# Altium footprint library WallBaseBoard1.PcbLib: 16 footprints
Each footprint in its own frame and in the unit in brackets; x right, y up, seen from the top. Pads: shape width x height; smd on the part's side, far side on the other; paste and mask are expansions set on the pad; w line width, h text height; cw(c..) or ccw(c..) is an arc to the next point about the centre after c.
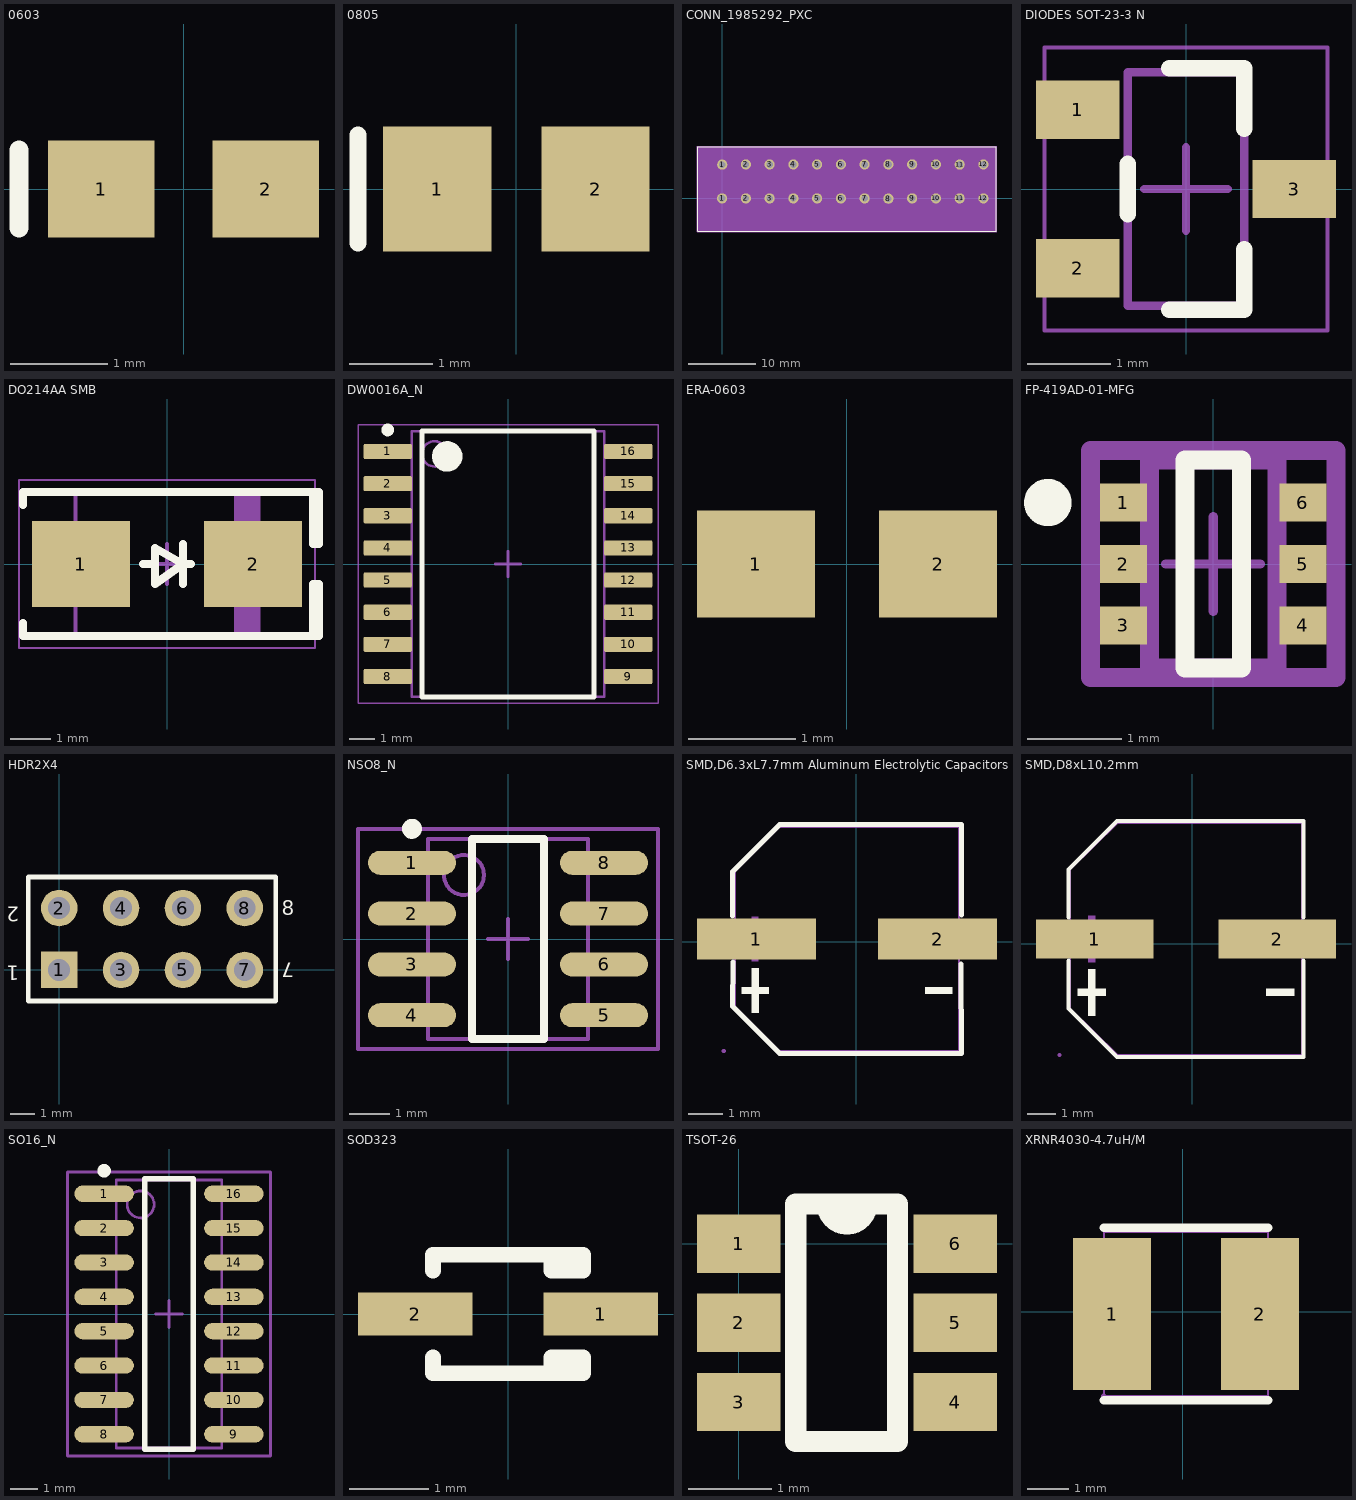
[diagram p0: the footprints below, top view; thin cyan lines are the x and y axes]

## 0603 [mm]
pads (2):
  rect 1.1x1 smd: 1(-0.85,0) 2(0.85,0)
Top Overlay:
  lines w0.2: -1.7,-0.4 -1.7,0.4

## 0805 [mm]
pads (2):
  rect 1.3x1.5 smd: 1(-0.95,0) 2(0.95,0)
Top Overlay:
  lines w0.2: -1.9,-0.65 -1.9,0.65

## CONN_1985292_PXC [mil]
pads (24):
  round 59 hole 39 paste-99999 mask+0: 1(0,0) 1(0.64,195.52) 2(137.8,0) 2(137.8,196.85) 3(275.59,0) 3(275.59,196.85) 4(413.39,0) 4(413.39,196.85) 5(551.18,196.85) 5(551.18,0) 6(688.98,0) 6(688.98,196.85) 7(826.77,196.85) 7(826.77,0) 8(964.43,-1.77) 8(964.57,196.85) 9(1102.36,196.85) 9(1102.36,0) 10(1240.16,0) 10(1240.16,196.85) 11(1377.95,0) 11(1377.96,196.09) 12(1515.75,0) 12(1515.75,196.85)
Top Overlay:
  lines w6: -140.59,-189.69 -140.59,298.31 1589.41,298.31 1589.41,-189.69 -140.59,-189.69
  text ".Designator" at 590,-90 h40
Mechanical 13:
  circle w20: c0,0 r15
  lines w1: -135.59,-184.69 -135.59,293.31 1584.41,293.31 1584.41,-184.69 -135.59,-184.69
  text ".Designator" at 600,-130 h40
Mechanical 15:
  region: 1594.41,303.31 -145.59,303.31 -145.59,-194.69 1594.41,-194.69
  lines w6: -145.59,-194.69 1594.41,-194.69 1594.41,303.31 -145.59,303.31 -145.59,-194.69

## DIODES SOT-23-3 N [mm]
pads (3):
  rect 1x0.7 smd: 1(-1.3,0.95) 2(-1.3,-0.95) 3(1.3,0)
Top Overlay:
  lines w0.2: -0.7,-0.3 -0.7,0.3 ; -0.2,-1.45 0.7,-1.45 0.7,-0.725 ; -0.2,1.45 0.7,1.45 0.7,0.725
Mechanical 13:
  lines w0.1: -0.7,-1.4 -0.7,1.4 0.7,1.4 0.7,-1.4 -0.7,-1.4
Mechanical 15:
  lines w0.05: -1.7,-1.7 -1.7,1.7 1.7,1.7 1.7,-1.7 -1.7,-1.7
  lines w0.1: -0.5,0 0.5,0 ; 0,-0.5 0,0.5
3D body "DIODES INC - SOT-23-3 - N.step": height 1.45, standoff 0, extent -1.5,-1.55 1.5,1.55

## DO214AA SMB [mm]
pads (2):
  rect 2.45x2.15 smd: 1(-2.15,0) 2(2.15,0)
Top Overlay:
  lines w0.2: -3.6,-1.475 -3.6,-1.8 3.8,-1.8 3.8,-0.5 3.65,-0.5 3.65,-1.8 ; -3.6,1.475 -3.6,1.8 3.8,1.8 3.8,0.5 3.65,0.5 3.65,1.8 ; -0.6,0 -0.3,0 ; 0.4,-0.5 0.4,0.5 ; 0.6,0 0.4,0 ; 0.4,0 -0.3,-0.5 -0.3,0.4 0.4,0
Mechanical 13:
  rectangle: 1.67,-1.8 2.285,1.8
  lines w0.1: -2.285,-1.8 -2.285,1.8 2.285,1.8 2.285,-1.8 -2.285,-1.8
Mechanical 15:
  lines w0.05: -3.7,-2.1 -3.7,2.1 3.7,2.1 3.7,-2.1 -3.7,-2.1
  lines w0.1: -0.5,0 0.5,0 ; 0,-0.5 0,0.5
3D body "SMB.STEP": height 2.4, standoff 0, extent -2.6,-1.8 2.6,1.8

## DW0016A_N [mm]
pads (16):
  rrect17% 1.9x0.6 smd: 1(-4.75,4.445) 2(-4.75,3.175) 3(-4.75,1.905) 4(-4.75,0.635) 5(-4.75,-0.635) 6(-4.75,-1.905) 7(-4.75,-3.175) 8(-4.75,-4.445) 9(4.75,-4.445) 10(4.75,-3.175) 11(4.75,-1.905) 12(4.75,-0.635) 13(4.75,0.635) 14(4.75,1.905) 15(4.75,3.175) 16(4.75,4.445)
Top Overlay:
  circle w0.25: c-4.75,5.295 r0.125
  circle w0.6: c-2.4,4.25 r0.3
  lines w0.2: -3.4,-5.25 -3.4,5.25 3.4,5.25 3.4,-5.25 -3.4,-5.25
Mechanical 1:
  text ".Designator" at -1.905,-0.254 h1.02
Mechanical 13:
  circle w0.1: c-2.9,4.35 r0.5
  lines w0.1: -3.8,-5.25 -3.8,5.25 3.8,5.25 3.8,-5.25 -3.8,-5.25
Mechanical 15:
  lines w0.05: -5.925,-5.5 -5.925,5.5 5.925,5.5 5.925,-5.5 -5.925,-5.5
  lines w0.1: -0.5,0 0.5,0 ; 0,-0.5 0,0.5
3D body "DW0016AakaM16B.stp": height 2.5, standoff -0.04, extent -5.143,-5.131 5.144,5.131

## ERA-0603 [mm]
pads (2):
  rect 1.1x1 smd: 1(-0.85,0) 2(0.85,0)

## FP-419AD-01-MFG [mm]
pads (6):
  rect 0.5x0.4 smd paste+0 mask+0: 1(-0.95,0.65) 2(-0.95,0) 3(-0.95,-0.65) 4(0.95,-0.65) 5(0.95,0) 6(0.95,0.65)
Top Overlay:
  circle w0.25: c-1.75,0.65 r0.125
  lines w0.2: -0.3,-1.1 0.3,-1.1 0.3,1.1 -0.3,1.1 -0.3,-1.1
Top 3D Body:
  lines w0.2: -0.675,-1.1 0.675,-1.1 0.675,1.1 -0.675,1.1 -0.675,-1.1
Top Courtyard:
  lines w0.2: -1.3,-1.2 1.3,-1.2 1.3,1.2 -1.3,1.2 -1.3,-1.2
Top Assembly:
  lines w0.2: -1.3,-1.2 1.3,-1.2 1.3,1.2 -1.3,1.2 -1.3,-1.2
  text ".Designator" at 0,0.191 h1.02
Top Component Center:
  lines w0.1: -0.5,0 0.5,0 ; 0,-0.5 0,0.5
3D body "IC_ON_Semiconductor_NC7WZ07P6X_eec.STEP": height 0.25, standoff 0, extent -1.3,-1.2 1.3,1.2

## HDR2X4 [mm]
pads (8):
  rect 1.5x1.5 hole 0.9: 1(0,0)
  round 1.5 hole 0.9: 2(0,2.54) 3(2.54,0) 4(2.54,2.54) 5(5.08,0) 6(5.08,2.54) 7(7.62,0) 8(7.62,2.54)
Top Overlay:
  lines w0.2: -1.27,-1.27 8.89,-1.27 8.89,3.81 -1.27,3.81 -1.27,-1.27
  text "2" at -1.651,2.794 h1.02
  text "1" at -1.651,0.381 h1.02
  text "7" at 9.652,0.508 h1.02
  text "8" at 9.144,2.032 h1.02

## NSO8_N [mm]
pads (8):
  oval 2.2x0.6 smd: 1(-2.4,1.905) 2(-2.4,0.635) 3(-2.4,-0.635) 4(-2.4,-1.905) 5(2.4,-1.905) 6(2.4,-0.635) 7(2.4,0.635) 8(2.4,1.905)
Top Overlay:
  circle w0.25: c-2.4,2.755 r0.125
  lines w0.2: -0.9,-2.5 -0.9,2.5 0.9,2.5 0.9,-2.5 -0.9,-2.5
Mechanical 13:
  circle w0.1: c-1.1,1.6 r0.5
  lines w0.1: -2,-2.5 -2,2.5 2,2.5 2,-2.5 -2,-2.5
Mechanical 15:
  lines w0.1: -0.5,0 0.5,0 ; 0,-0.5 0,0.5 ; -3.75,-2.75 -3.75,2.75 3.75,2.75 3.75,-2.75 -3.75,-2.75
3D body: height 1.75, standoff 0, extent -2,-2.5 2,2.5

## SMD,D6.3xL7.7mm Aluminum Electrolytic Capacitors [mm]
pads (2):
  rect 3.5x1.2 smd paste+0 mask+0.051: 1(-2.949,0.074) 2(2.391,0.074)
Top Overlay:
  region: -3.084,-0.784 -3.084,-2.104 -2.886,-2.104 -2.886,-0.784
  region: -3.381,-1.345 -3.381,-1.543 -2.589,-1.543 -2.589,-1.345
  region: 2.823,-1.345 2.823,-1.543 2.031,-1.543 2.031,-1.345
  lines w0.152: -3.655,0.759 -3.655,2.054 -2.259,3.45 3.097,3.45 3.091,0.781 ; -3.641,-0.612 -3.655,-1.908 -2.26,-3.302 3.097,-3.302 3.077,-0.666
Mechanical 6:
  region: -3.089,0.734 -3.089,-0.586 -2.891,-0.586 -2.891,0.734
  region: -3.381,0.173 -3.381,-0.025 -2.589,-0.025 -2.589,0.173
  region: 2.823,0.173 2.823,-0.025 2.031,-0.025 2.031,0.173
Mechanical 15:
  region: -3.913,0.399 -1.313,0.399 -1.313,-0.251 -3.913,-0.251
  region: 0.788,0.399 3.388,0.399 3.388,-0.251 0.788,-0.251
  region: -3.853,-3.226 -3.854,-3.202 -3.888,-3.169 -3.937,-3.169 -3.972,-3.202 -3.973,-3.226 -3.972,-3.25 -3.937,-3.284 -3.888,-3.284 -3.854,-3.25
  lines w0.051: -3.579,-1.906 -3.579,2.054 -2.259,3.374 3.021,3.374 3.021,-3.226 -2.259,-3.226 -3.579,-1.906
3D body: height 7.7, standoff 0, extent -3.404,-3.15 2.896,3.15

## SMD,D8xL10.2mm [mm]
pads (2):
  rect 4.2x1.4 smd paste+0 mask+0.051: 1(-3.488,0.162) 2(3.046,0.162)
Top Overlay:
  region: -3.723,-0.917 -3.723,-2.577 -3.474,-2.577 -3.474,-0.917
  region: -4.097,-1.622 -4.097,-1.871 -3.101,-1.871 -3.101,-1.622
  region: 3.655,-1.622 3.655,-1.871 2.659,-1.871 2.659,-1.622
  lines w0.152: -4.422,-0.62 -4.422,-2.328 -2.686,-4.064 3.98,-4.064 3.98,-0.62 ; -4.422,0.945 -4.422,2.652 -2.686,4.388 3.98,4.388 3.98,0.945
Mechanical 6:
  region: -3.723,0.992 -3.723,-0.668 -3.474,-0.668 -3.474,0.992
  region: -4.097,0.287 -4.097,0.038 -3.101,0.038 -3.101,0.287
  region: 3.655,0.287 3.655,0.038 2.659,0.038 2.659,0.287
Mechanical 15:
  region: -4.745,0.612 -1.795,0.612 -1.795,-0.288 -4.745,-0.288
  region: 1.354,0.612 4.304,0.612 4.304,-0.288 1.354,-0.288
  region: -4.685,-3.988 -4.686,-3.964 -4.721,-3.93 -4.769,-3.93 -4.804,-3.964 -4.805,-3.988 -4.804,-4.012 -4.769,-4.045 -4.721,-4.045 -4.686,-4.012
  lines w0.051: -4.371,-2.328 -4.371,2.652 -2.686,4.312 3.929,4.312 3.929,-3.988 -2.686,-3.988 -4.371,-2.328
3D body: height 10.2, standoff 0, extent -4.247,-3.816 3.753,4.184

## SO16_N [mm]
pads (16):
  oval 2.2x0.6 smd: 1(-2.4,4.445) 2(-2.4,3.175) 3(-2.4,1.905) 4(-2.4,0.635) 5(-2.4,-0.635) 6(-2.4,-1.905) 7(-2.4,-3.175) 8(-2.4,-4.445) 9(2.4,-4.445) 10(2.4,-3.175) 11(2.4,-1.905) 12(2.4,-0.635) 13(2.4,0.635) 14(2.4,1.905) 15(2.4,3.175) 16(2.4,4.445)
Top Overlay:
  circle w0.25: c-2.4,5.295 r0.125
  lines w0.2: -0.9,-5 0.9,-5 0.9,5 -0.9,5 -0.9,-5
Mechanical 13:
  circle w0.1: c-1.05,4.05 r0.5
  lines w0.1: -1.95,-4.95 1.95,-4.95 1.95,4.95 -1.95,4.95 -1.95,-4.95
Mechanical 15:
  lines w0.1: -0.5,0 0.5,0 ; 0,-0.5 0,0.5 ; -3.75,-5.25 3.75,-5.25 3.75,5.25 -3.75,5.25 -3.75,-5.25
3D body: height 1.75, standoff 0, extent -1.95,-4.95 1.95,4.95

## SOD323 [mm]
pads (2):
  rect 1.45x0.55 smd: 1(1.175,0) 2(-1.175,0)
Top Overlay:
  lines w0.2: -0.95,-0.55 -0.95,-0.75 0.95,-0.75 0.95,-0.55 0.55,-0.55 0.55,-0.75 ; -0.95,0.55 -0.95,0.75 0.95,0.75 0.95,0.55 0.55,0.55 0.55,0.75

## TSOT-26 [mm]
pads (6):
  rect 1x0.7 smd: 1(0,0) 2(0,-0.95) 3(0,-1.9) 4(2.6,-1.9) 5(2.6,-0.95) 6(2.6,0)
Top Overlay:
  lines w0.254: 0.686,-2.375 0.686,0.475 1.538,0.475 cw(c1.3,0.475) 1.062,0.475 1.905,0.475 1.905,-2.375 0.686,-2.375
3D body: height 1, standoff 0, extent 0.533,-2.515 2.032,0.61

## XRNR4030-4.7uH/M [mm]
pads (2):
  rect 1.9x3.7 smd paste+0 mask+0.051: 1(-1.717,-0.059) 2(1.883,-0.059)
Top Overlay:
  lines w0.203: -1.917,-2.159 2.083,-2.159 ; -1.917,2.041 2.083,2.041
Mechanical 15:
  region: -1.917,-1.809 -1.917,1.691 -0.967,1.691 -0.967,-1.809
  region: 2.083,1.691 2.083,-1.809 1.133,-1.809 1.133,1.691
  region: -1.859,-2.059 -1.859,-2.035 -1.894,-2.001 -1.943,-2.001 -1.977,-2.035 -1.978,-2.059 -1.977,-2.083 -1.943,-2.117 -1.894,-2.117 -1.86,-2.083
  lines w0.051: -1.917,-2.059 2.083,-2.059 2.083,1.941 -1.917,1.941 -1.917,-2.059